# Altium integrated library 7P 2.54mm.IntLib: 1 symbol
Pins are listed as number, name and electrical type; pins without a type are passive.

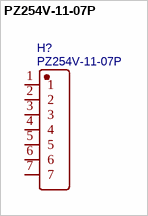
[diagram p0: symbol PZ254V-11-07P]

## PZ254V-11-07P
designator H?
BOM_Manufacturer: XFCN; Contributor: LCSC; BOM_Supplier: LCSC; BOM_Supplier Part: C492406; BOM_Manufacturer Part: PZ254V-11-07P; BOM_JLCPCB Part Class: Extended Part; spicePre: H; spiceSymbolName: PZ254V-11-07P
footprint HDR-TH_7P-P2.54-V-M
pins: 1, 2, 3, 4, 5, 6, 7